# EAGLE library part DM3D-SF (library distributed-vision)
10 (8 + 2) Position Card Connector Secure Digital - microSD™ Surface Mount, Right Angle Gold
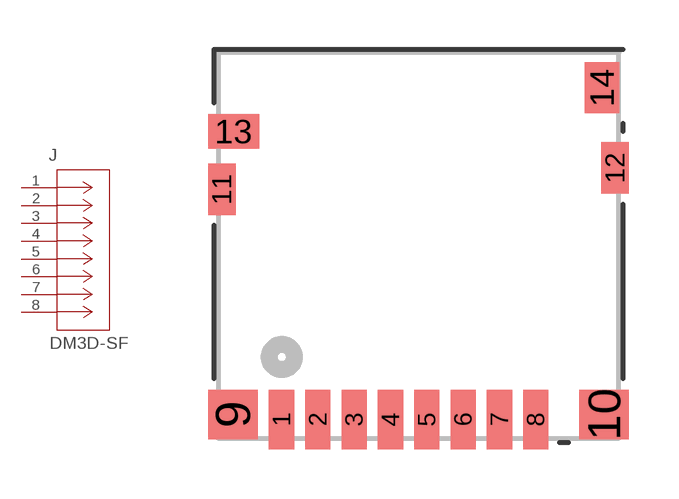
[diagram p6: symbol with the pads of CONN8_DM3D-SF_HIR; footprint CONN8_DM3D-SF_HIR]

Designator prefix J

## DM3D-SF (DKPN: HR1941CT-ND)  [CONN8_DM3D-SF_HIR]
1  1  pas
2  2  pas
3  3  pas
4  4  pas
5  5  pas
6  6  pas
7  7  pas
8  8  pas

## Footprint CONN8_DM3D-SF_HIR (pad centres in mm)
smd 0.762 x 1.803: 1 -4.149,-5.271; 2 -3.049,-5.271; 3 -1.949,-5.271; 4 -0.849,-5.271; 5 0.251,-5.271; 6 1.351,-5.271; 7 2.451,-5.271; 8 3.551,-5.271
smd 1.499 x 1.499: 9 -5.625,-5.118; 10 5.625,-5.118
smd 0.838 x 1.549: 11 -5.955,1.706; 12 5.955,2.356
smd 1.549 x 1.041: 13 -5.6,3.46
smd 1.041 x 1.549: 14 5.554,4.781